# Altium footprint library Connector-EDG-3.81.PcbLib: 15 footprints
Each footprint in its own frame and in the unit in brackets; x right, y up, seen from the top. Pads: shape width x height; smd on the part's side, far side on the other; paste and mask are expansions set on the pad; w line width, h text height; cw(c..) or ccw(c..) is an arc to the next point about the centre after c.
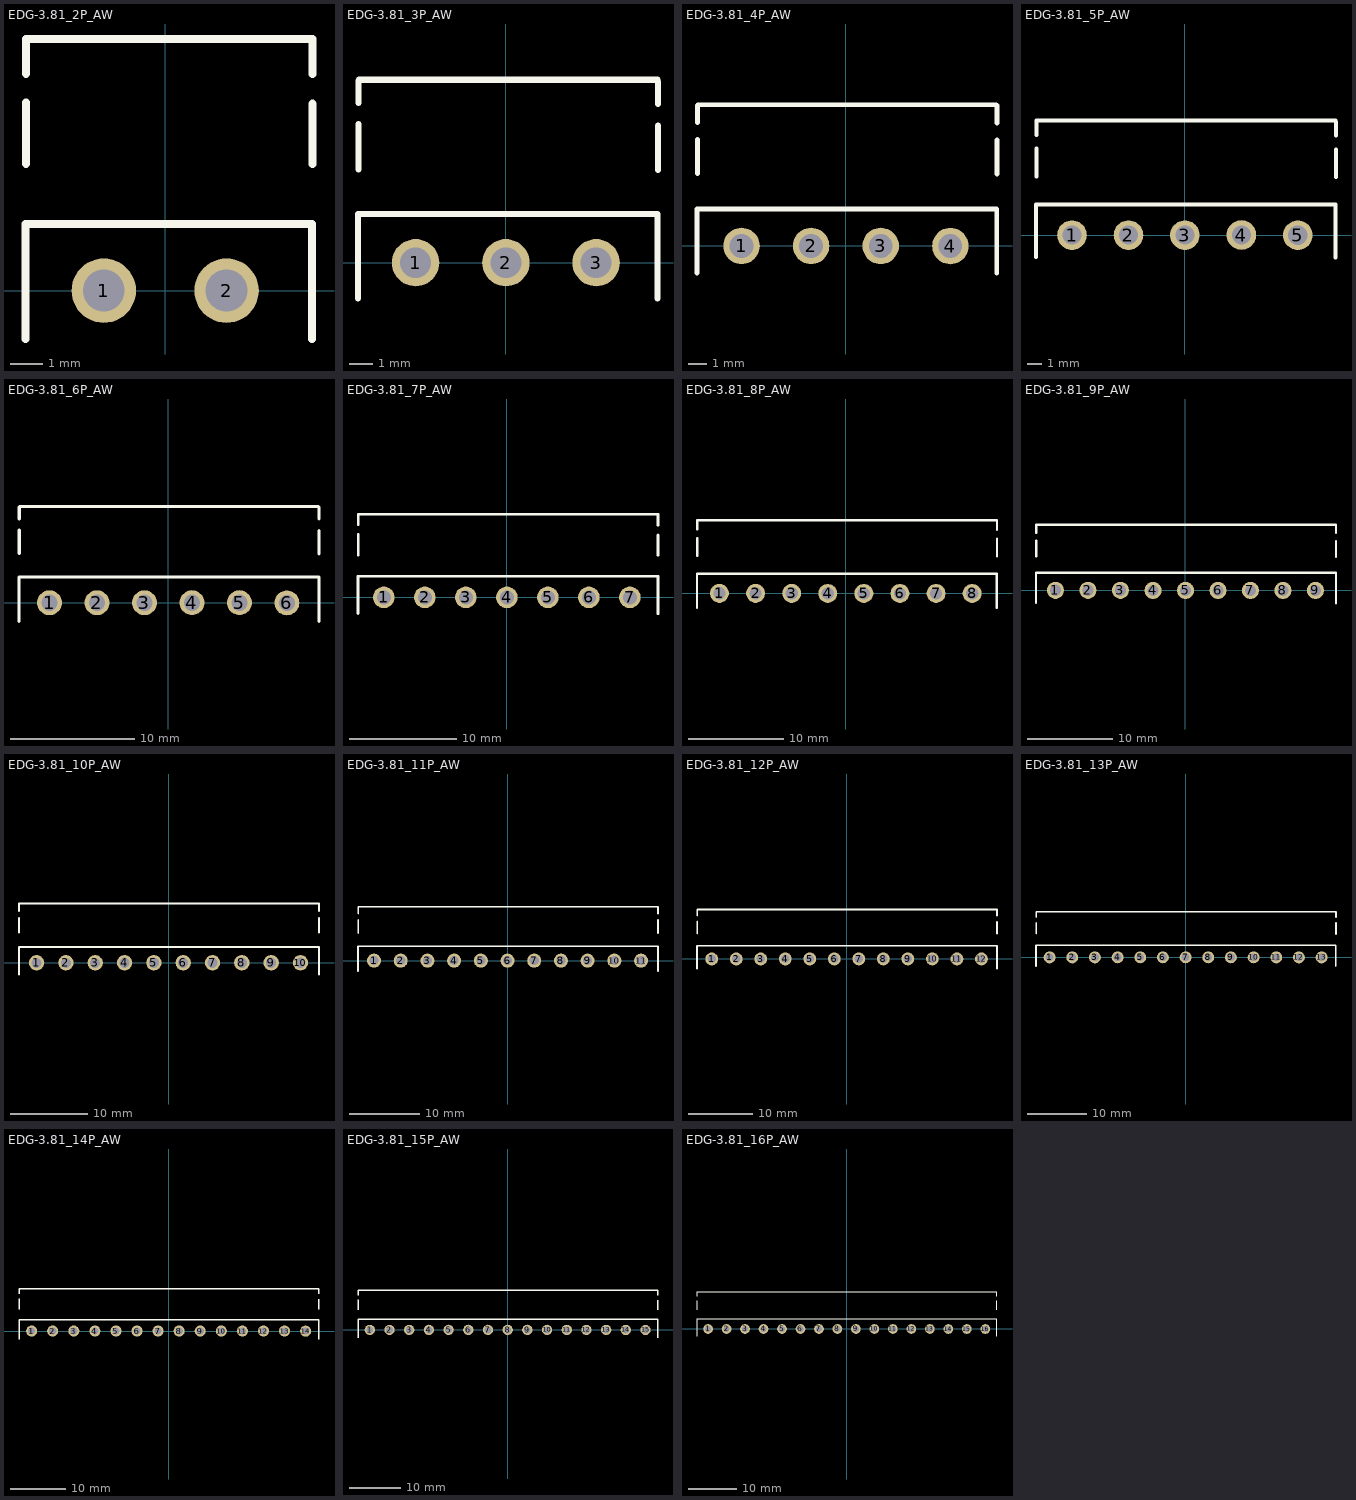
[diagram p0: the footprints below, top view; thin cyan lines are the x and y axes]

## EDG-3.81_2P_AW [mm]
pads (2):
  round 2 hole 1.3: 1(-1.905,0) 2(1.905,0)
Top Overlay:
  lines w0.254: -4.338,-1.5 -4.338,2.069 4.559,2.069 4.559,-1.5 ; -4.317,3.938 -4.317,5.843 ; -4.317,6.732 -4.317,7.812 -0.101,7.812 4.569,7.812 ; 4.575,3.931 4.575,5.803 ; 4.575,6.725 4.575,7.793
3D body "FCI 06-381 2Pos.STEP": height 7.6, standoff -3.52, extent -4.288,-1.453 4.522,7.747

## EDG-3.81_3P_AW [mm]
pads (3):
  round 2 hole 1.3: 1(-3.81,0) 2(0,0) 3(3.81,0)
Top Overlay:
  lines w0.254: -6.241,-1.5 -6.241,2.06 ; -6.215,3.945 -6.215,5.85 ; -6.215,6.739 -6.215,7.689 ; -6.213,2.06 6.332,2.06 ; -6.195,7.722 1.803,7.722 6.408,7.722 ; 6.396,-1.5 6.396,2.06 ; 6.421,3.912 6.421,5.784 ; 6.421,6.706 6.421,7.645
3D body "FCI 06-381 3Pos.STEP": height 7.6, standoff -3.52, extent -6.194,-1.482 6.426,7.718

## EDG-3.81_4P_AW [mm]
pads (4):
  round 2 hole 1.3: 1(-5.718,0.005) 2(-1.908,0.005) 3(1.902,0.005) 4(5.718,-0.005)
Top Overlay:
  lines w0.254: -8.156,-1.495 -8.156,2.027 8.25,2.027 ; -8.131,3.949 -8.131,5.854 ; -8.131,6.743 -8.131,7.693 ; -8.116,7.737 -0.104,7.737 8.237,7.737 ; 8.265,-1.492 8.265,2.027 ; 8.271,3.939 8.271,5.811 ; 8.271,6.733 8.271,7.693
3D body "FCI 06-381 4Pos.STEP": height 7.6, standoff -3.52, extent -8.129,-1.484 8.301,7.716

## EDG-3.81_5P_AW [mm]
pads (5):
  round 2 hole 1.3: 1(-7.623,0.003) 2(-3.813,0.003) 3(-0.003,0.003) 4(3.813,0.006) 5(7.623,-0.006)
Top Overlay:
  lines w0.254: -10.056,-1.497 -10.056,2.064 ; -10.046,2.064 10.157,2.064 ; -10.031,3.948 -10.031,5.853 ; -10.031,6.742 -10.031,7.692 ; -10.023,7.735 -2.009,7.735 10.18,7.735 ; 10.165,-1.506 10.165,2.064 ; 10.197,3.924 10.197,5.796 ; 10.197,6.718 10.197,7.658
3D body "FCI 06-381 5Pos.STEP": height 7.6, standoff -3.52, extent -10.054,-1.457 10.186,7.743

## EDG-3.81_6P_AW [mm]
pads (6):
  round 2 hole 1.3: 1(-9.528,0.003) 2(-5.718,0.003) 3(-1.908,0.003) 4(1.908,0.006) 5(5.718,0.006) 6(9.528,-0.006)
Top Overlay:
  lines w0.254: -11.979,-1.497 -11.979,2.064 ; -11.954,2.064 12.049,2.064 ; -11.954,3.948 -11.954,5.853 ; -11.954,6.742 -11.954,7.692 ; -11.933,7.733 -3.914,7.733 12.057,7.733 12.107,7.683 12.107,6.718 ; 12.101,-1.506 12.101,2.063 ; 12.107,3.924 12.107,5.796
3D body "FCI 06-381 6Pos.STEP": height 7.6, standoff -3.52, extent -11.932,-1.527 12.118,7.673

## EDG-3.81_7P_AW [mm]
pads (7):
  round 2 hole 1.3: 1(-11.433,-0.001) 2(-7.623,-0.001) 3(-3.813,-0.001) 4(0.003,0.002) 5(3.813,0.002) 6(7.623,0.002) 7(11.433,0.002)
Top Overlay:
  lines w0.254: -13.831,-1.501 -13.831,1.972 14.041,1.972 14.041,-1.511 ; -13.805,3.943 -13.805,5.848 ; -13.805,6.737 -13.805,7.715 -5.819,7.715 14.043,7.715 ; 14.047,3.92 14.047,5.792 ; 14.047,6.714 14.047,7.679
3D body "FCI 06-381 7Pos.STEP": height 7.6, standoff -3.52, extent -13.81,-1.502 14.05,7.698

## EDG-3.81_8P_AW [mm]
pads (8):
  round 2 hole 1.3: 1(-13.338,0.005) 2(-9.528,0.005) 3(-5.718,0.005) 4(-1.902,-0.005) 5(1.908,-0.005) 6(5.718,-0.005) 7(9.528,-0.005) 8(13.338,-0.005)
Top Overlay:
  lines w0.254: -15.71,-1.495 -15.71,2.065 15.953,2.065 ; -15.685,3.949 -15.685,5.854 ; -15.685,6.743 -15.685,7.693 ; -15.685,7.716 -7.724,7.716 15.925,7.716 ; 15.957,-1.505 15.957,2.065 ; 15.963,3.926 15.963,5.798 ; 15.963,6.72 15.963,7.66
3D body "FCI 06-381 8Pos.STEP": height 7.6, standoff -3.52, extent -15.686,-1.56 15.984,7.64

## EDG-3.81_9P_AW [mm]
pads (9):
  round 2 hole 1.3: 1(-15.243,0.005) 2(-11.433,0.005) 3(-7.623,0.005) 4(-3.807,-0.005) 5(0.003,-0.005) 6(3.813,-0.005) 7(7.623,-0.005) 8(11.433,-0.005) 9(15.243,-0.005)
Top Overlay:
  lines w0.254: -17.529,-1.495 -17.529,2.065 17.618,2.065 ; -17.503,3.949 -17.503,5.854 ; -17.503,6.743 -17.503,7.693 -9.629,7.693 17.616,7.693 17.624,7.685 ; 17.643,-1.518 17.643,2.051 ; 17.649,3.913 17.649,5.785 ; 17.649,6.707 17.649,7.685

## EDG-3.81_10P_AW [mm]
pads (10):
  round 2 hole 1.3: 1(-17.148,-0.001) 2(-13.338,-0.001) 3(-9.528,-0.001) 4(-5.712,0.002) 5(-1.902,0.002) 6(1.908,0.002) 7(5.718,0.002) 8(9.528,0.002) 9(13.338,0.002) 10(17.148,0.002)
Top Overlay:
  lines w0.254: -19.434,-1.501 -19.434,2.059 19.485,2.059 ; -19.408,3.943 -19.408,5.848 ; -19.408,6.737 -19.408,7.687 -11.534,7.687 19.529,7.687 ; 19.548,-1.511 19.548,2.058 ; 19.554,3.92 19.554,5.792 ; 19.554,6.714 19.554,7.687

## EDG-3.81_11P_AW [mm]
pads (11):
  round 2 hole 1.3: 1(-19.056,-0.001) 2(-15.246,-0.001) 3(-11.436,-0.001) 4(-7.621,0.002) 5(-3.811,0.002) 6(-0.001,0.002) 7(3.809,0.002) 8(7.619,0.002) 9(11.429,0.002) 10(15.239,0.002)
  round 2 hole 1.3 paste+0: 11(19.056,-0.001)
Top Overlay:
  lines w0.254: -21.342,-1.501 -21.342,2.059 21.454,2.059 21.469,2.043 21.469,-1.501 ; -21.317,3.943 -21.317,5.848 ; -21.317,6.737 -21.317,7.687 -13.443,7.687 21.475,7.687 21.475,6.723 ; 21.475,3.929 21.475,5.801

## EDG-3.81_12P_AW [mm]
pads (12):
  round 2 hole 1.3: 1(-20.961,-0.001) 2(-17.151,-0.001) 3(-13.341,-0.001) 4(-9.526,0.002) 5(-5.716,0.002) 6(-1.906,0.002) 7(1.904,0.002) 8(5.714,0.002) 9(9.524,0.002) 10(13.334,0.002) 12(20.961,-0.001)
  round 2 hole 1.3 paste+0: 11(17.151,-0.001)
Top Overlay:
  lines w0.254: -23.247,-1.501 -23.247,2.059 23.359,2.059 23.374,2.043 23.374,-1.501 ; -23.222,3.943 -23.222,5.848 ; -23.222,6.737 -23.222,7.687 -15.348,7.687 23.374,7.687 ; 23.38,3.929 23.38,5.801 ; 23.38,6.723 23.38,7.663

## EDG-3.81_13P_AW [mm]
pads (13):
  round 2 hole 1.3: 1(-22.866,-0.001) 2(-19.056,-0.001) 3(-15.246,-0.001) 4(-11.431,0.002) 5(-7.621,0.002) 6(-3.811,0.002) 7(-0.001,0.002) 8(3.809,0.002) 9(7.619,0.002) 10(11.429,0.002) 12(19.056,-0.001) 13(22.866,-0.001)
  round 2 hole 1.3 paste+0: 11(15.246,-0.001)
Top Overlay:
  lines w0.254: -25.152,-1.501 -25.152,2.059 25.267,2.059 ; -25.127,3.943 -25.127,5.848 ; -25.127,6.737 -25.127,7.687 -17.253,7.687 25.274,7.687 25.285,7.676 25.285,6.711 ; 25.279,-1.514 25.279,2.055 ; 25.285,3.917 25.285,5.789

## EDG-3.81_14P_AW [mm]
pads (14):
  round 2 hole 1.3: 1(-24.771,0.005) 2(-20.961,0.005) 3(-17.151,0.005) 4(-13.336,0.008) 5(-9.526,0.008) 6(-5.716,0.008) 7(-1.906,0.008) 8(1.904,0.008) 9(5.714,0.008) 10(9.524,0.008) 12(17.151,0.005) 13(20.961,0.005) 14(24.771,-0.008)
  round 2 hole 1.3 paste+0: 11(13.341,0.005)
Top Overlay:
  lines w0.254: -27.057,-1.495 -27.057,2.065 27.172,2.065 ; -27.032,3.949 -27.032,5.854 ; -27.032,6.743 -27.032,7.693 -19.158,7.693 27.179,7.693 27.19,7.682 27.19,6.717 ; 27.184,-1.508 27.184,2.061 ; 27.19,3.923 27.19,5.795

## EDG-3.81_15P_AW [mm]
pads (15):
  round 2 hole 1.3: 1(-26.676,0.005) 2(-22.866,0.005) 3(-19.056,0.005) 4(-15.241,0.008) 5(-11.431,0.008) 6(-7.621,0.008) 7(-3.811,0.008) 8(-0.001,0.008) 9(3.809,0.008) 10(7.619,0.008) 12(15.246,0.005) 13(19.056,0.005) 14(22.866,-0.008) 15(26.676,-0.008)
  round 2 hole 1.3 paste+0: 11(11.436,0.005)
Top Overlay:
  lines w0.254: -28.962,-1.495 -28.962,2.065 29.061,2.065 29.089,2.037 29.089,-1.521 ; -28.937,3.949 -28.937,5.854 ; -28.937,6.743 -28.937,7.693 -21.063,7.693 29.072,7.693 29.095,7.67 29.095,6.704 ; 29.095,3.91 29.095,5.782

## EDG-3.81_16P_AW [mm]
pads (16):
  round 2 hole 1.3: 1(-28.581,0.005) 2(-24.771,0.005) 3(-20.961,0.005) 4(-17.146,0.008) 5(-13.336,0.008) 6(-9.526,0.008) 7(-5.716,0.008) 8(-1.906,0.008) 9(1.904,0.008) 10(5.714,0.008) 12(13.341,0.005) 13(17.151,0.005) 14(20.961,-0.008) 15(24.771,-0.008) 16(28.581,-0.008)
  round 2 hole 1.3 paste+0: 11(9.531,0.005)
Top Overlay:
  lines w0.254: -30.867,-1.495 -30.867,2.065 30.956,2.065 ; -30.842,3.949 -30.842,5.854 ; -30.842,6.743 -30.842,7.693 -22.968,7.693 30.977,7.693 31,7.67 31,6.717 ; 30.994,-1.508 30.994,2.061 ; 31,3.923 31,5.795